# Altium footprint library Switch.PcbLib: 7 footprints
Each footprint in its own frame and in the unit in brackets; x right, y up, seen from the top. Pads: shape width x height; smd on the part's side, far side on the other; paste and mask are expansions set on the pad; w line width, h text height; cw(c..) or ccw(c..) is an arc to the next point about the centre after c.
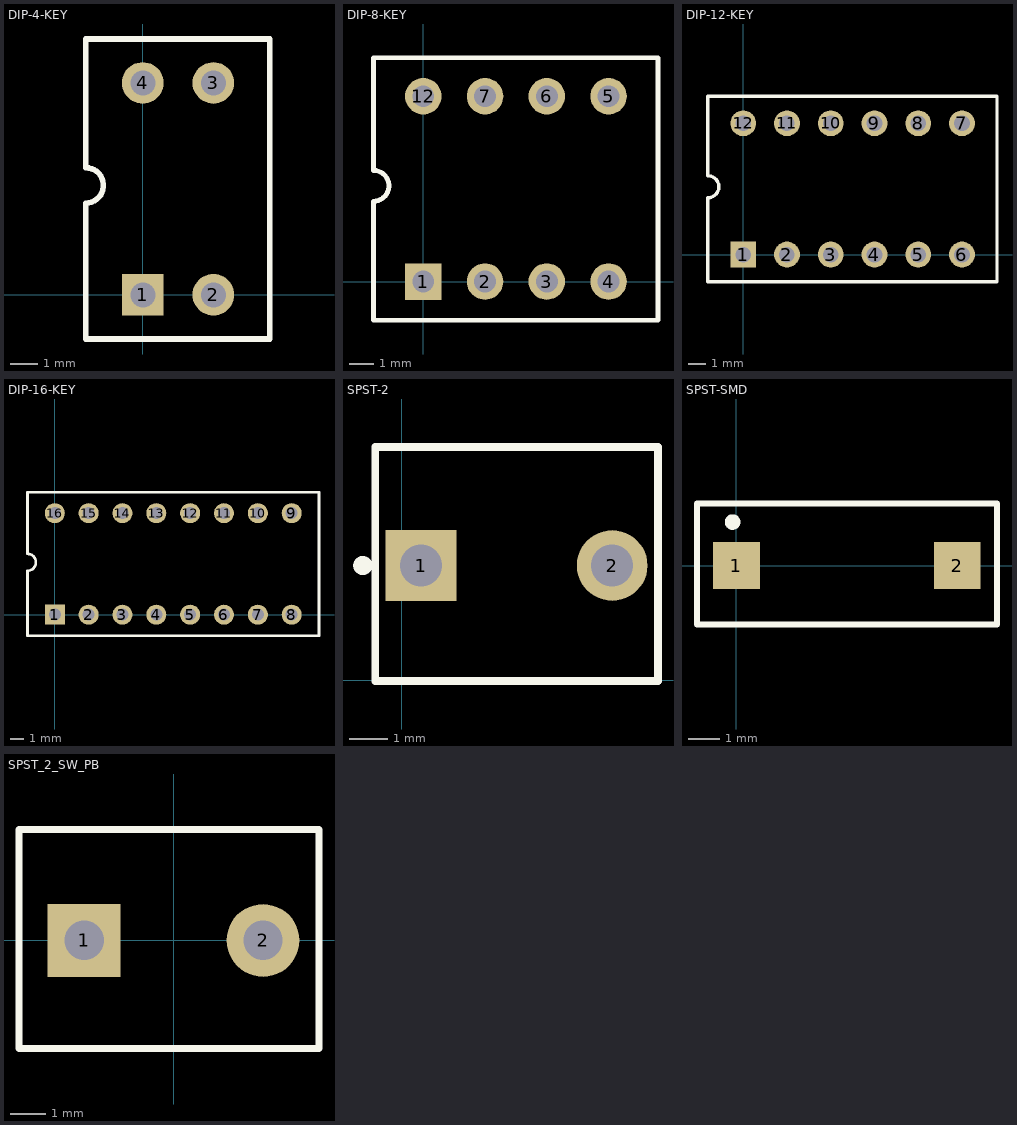
[diagram p0: the footprints below, top view; thin cyan lines are the x and y axes]

## DIP-4-KEY [mm] "DIP; 4 Leads; Row Spacing 7.62 mm; Pitch 2.54 mm"
pads (4):
  rect 1.5x1.5 hole 0.9: 1(0,0)
  round 1.5 hole 0.9: 2(2.54,0) 3(2.54,7.62) 4(0,7.62)
Top Overlay:
  lines w0.2: -2.05,4.57 cw(c-2.05,3.935) -2.05,3.3 -2.05,-1.59 4.572,-1.59 4.572,9.2 -2.05,9.2 -2.05,4.6

## DIP-8-KEY [mm] "DIP; 8 Leads; Row Spacing 7.62 mm; Pitch 2.54 mm"
pads (8):
  rect 1.5x1.5 hole 0.9: 1(0,0)
  round 1.5 hole 0.9: 2(2.54,0) 3(5.08,0) 4(7.62,0) 5(7.62,7.62) 6(5.08,7.62) 7(2.54,7.62) 12(0,7.62)
Top Overlay:
  lines w0.2: -2.05,4.57 cw(c-2.05,3.935) -2.05,3.3 -2.05,-1.59 9.652,-1.59 9.652,9.2 -2.05,9.2 -2.05,4.6

## DIP-12-KEY [mm] "DIP; 12 Leads; Row Spacing 7.62 mm; Pitch 2.54 mm"
pads (12):
  rect 1.5x1.5 hole 0.9: 1(0,0)
  round 1.5 hole 0.9: 2(2.54,0) 3(5.08,0) 4(7.62,0) 5(10.16,0) 6(12.7,0) 7(12.7,7.62) 8(10.16,7.62) 9(7.62,7.62) 10(5.08,7.62) 11(2.54,7.62) 12(0,7.62)
Top Overlay:
  lines w0.2: -2.05,4.57 cw(c-2.05,3.935) -2.05,3.3 -2.05,-1.59 14.732,-1.59 14.732,9.2 -2.05,9.2 -2.05,4.6

## DIP-16-KEY [mm] "DIP; 16 Leads; Row Spacing 7.62 mm; Pitch 2.54 mm"
pads (16):
  rect 1.5x1.5 hole 0.9: 1(0,0)
  round 1.5 hole 0.9: 2(2.54,0) 3(5.08,0) 4(7.62,0) 5(10.16,0) 6(12.7,0) 7(15.24,0) 8(17.78,0) 9(17.78,7.62) 10(15.24,7.62) 11(12.7,7.62) 12(10.16,7.62) 13(7.62,7.62) 14(5.08,7.62) 15(2.54,7.62) 16(0,7.62)
Top Overlay:
  lines w0.2: -2.05,4.57 cw(c-2.05,3.935) -2.05,3.3 -2.05,-1.59 19.83,-1.59 19.83,9.2 -2.05,9.2 -2.05,4.6

## SPST-2 [mm] "Circuit Breaker; 2 Leads"
pads (2):
  rect 1.85x1.85 hole 1.1: 1(0.5,3)
  round 1.85 hole 1.1: 2(5.5,3)
Top Overlay:
  circle w0.25: c-1.025,3 r0.125
  lines w0.2: -0.7,-0.021 -0.7,6.1 6.7,6.1 6.7,-0.021 -0.7,-0.021

## SPST-SMD [mm] "Circuit Breaker; 2 Leads"
pads (2):
  rect 1.5x1.5 smd: 1(0,0) 2(7.1,0)
Top Overlay:
  circle w0.25: c-0.125,1.4 r0.125
  lines w0.2: -1.27,-1.9 8.382,-1.9 8.382,2 -1.27,2 -1.27,-1.9
3D body "TactSMD.STEP": height 2.2, standoff 0.02, extent -0.5,-1.7 7.5,1.8

## SPST_2_SW_PB [mm] "Circuit Breaker; 2 Leads"
pads (2):
  rect 2.032x2.032 hole 1.1: 1(-2.5,0)
  round 2.032 hole 1.1: 2(2.5,0)
Top Overlay:
  lines w0.2: -4.318,-3.021 -4.318,3.1 4.064,3.1 4.064,-3.021 -4.318,-3.021
3D body "Tact DIP 6x6_2Branca.STEP": height 5, standoff -2, extent -3.425,-3 3.425,3